# Altium footprint library 元器件.PCBLIB: 210 footprints (part 8 of 14)
Each footprint in its own frame and in the unit in brackets; x right, y up, seen from the top. Pads: shape width x height; smd on the part's side, far side on the other; paste and mask are expansions set on the pad; w line width, h text height; cw(c..) or ccw(c..) is an arc to the next point about the centre after c.
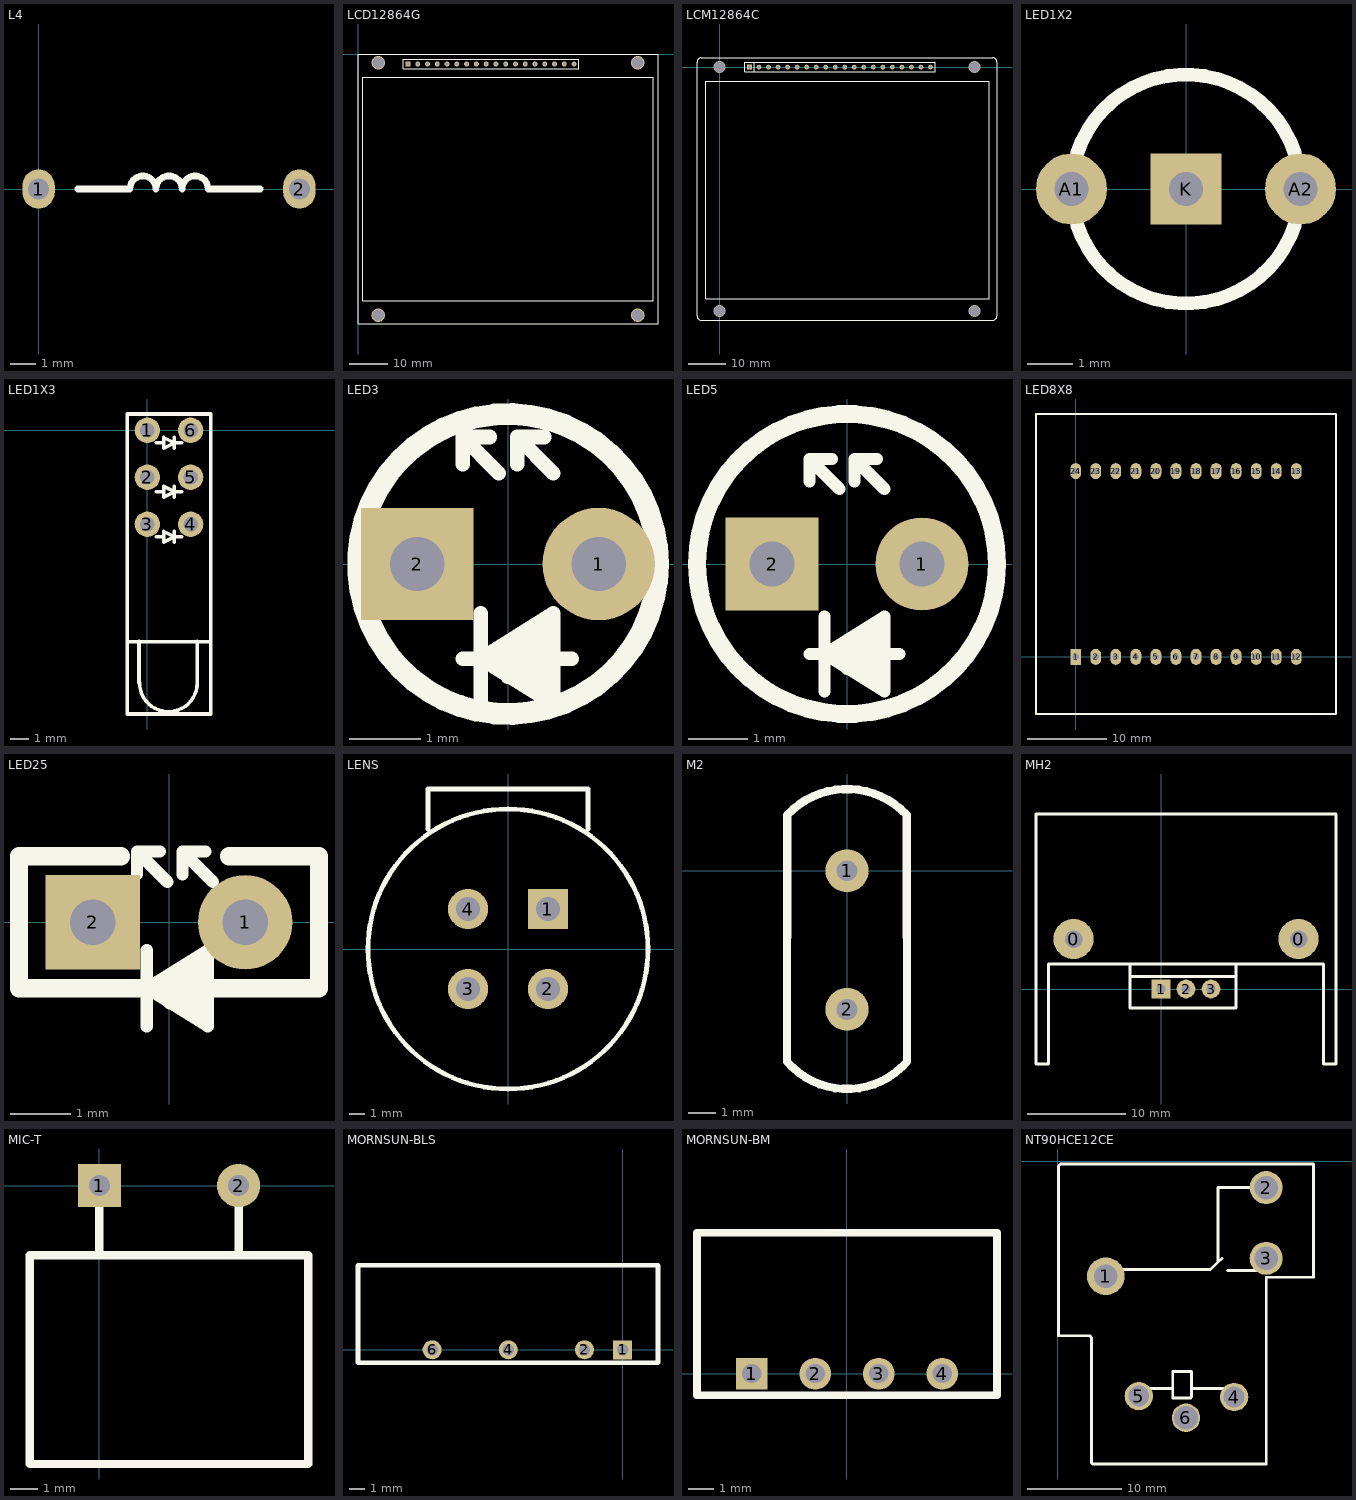
[diagram p7: the footprints below, top view; thin cyan lines are the x and y axes]

## L4 [mil]
pads (2):
  oval 50x60 hole 32: 1(0,0) 2(400,0)
TopOverlay:
  lines w10: 60,0 140,0 cw(c160,0) 180,0 cw(c200,0) 220,0 cw(c240,0) 260,0 340,0

## LCD12864G [mm]
pads (18):
  rect 1.27x1.27 hole 0.762: 1(13,-2.5)
  round 1.27 hole 0.762: 2(15.54,-2.5) 3(18.08,-2.5) 4(20.62,-2.5) 5(23.16,-2.5) 6(25.7,-2.5) 7(28.24,-2.5) 8(30.78,-2.5) 9(33.32,-2.5) 10(35.86,-2.5) 11(38.4,-2.5) 12(40.94,-2.5) 13(43.48,-2.5) 14(46.02,-2.5) 15(48.56,-2.5) 16(51.1,-2.5) 17(53.64,-2.5) 18(56.18,-2.5)
via 5.25,-67.8 diameter 3.5 hole 3
via 72.75,-67.8 diameter 3.5 hole 3
via 5.25,-2.2 diameter 3.5 hole 3
via 72.75,-2.2 diameter 3.5 hole 3
TopOverlay:
  lines w0.305: 0,-70 0,0 78,0 78,-70 0,-70 ; 1.2,-64 76.8,-64 76.8,-6 1.2,-6 1.2,-64 ; 11.73,-3.77 11.73,-1.23 57.45,-1.23 57.45,-3.77 11.73,-3.77

## LCM12864C [mil]
pads (20):
  rect 50x50 hole 32: 1(314.96,0)
  round 50 hole 32: 2(414.96,0) 3(514.96,0) 4(614.96,0) 5(714.96,0) 6(814.96,0) 7(914.96,0) 8(1014.96,0) 9(1114.96,0) 10(1214.96,0) 11(1314.96,0) 12(1414.96,0) 13(1514.96,0) 14(1614.96,0) 15(1714.96,0) 16(1814.96,0) 17(1914.96,0) 18(2014.96,0) 19(2114.96,0) 20(2214.96,0)
via 0,0 diameter 125.98 hole 118.11
via 2677.17,0 diameter 125.98 hole 118.11
via 0,-2559.06 diameter 125.98 hole 118.11
via 2677.17,-2559.06 diameter 125.98 hole 118.11
TopLayer:
  lines w12: 1014.96,-0.79 1014.96,0
TopOverlay:
  lines w10: -236.22,-1814.57 -236.22,51.43 cw(c-189.22,51.43) -189.22,98.43 ; 364.96,-50 364.96,50 ; 264.96,-50 2264.96,-50 2264.96,50 264.96,50 264.96,-50
  lines w12: -236.22,51.43 -236.22,-2610.48 ccw(c-189.22,-2610.48) -189.22,-2657.48 2866.39,-2657.48 ccw(c2866.39,-2610.48) 2913.39,-2610.48 2913.39,51.43 ccw(c2866.39,51.43) 2866.39,98.43 -137.8,98.43 -189.22,98.43 ; -143.7,-2433.07 2832.68,-2433.07 2832.68,-149.61 -143.7,-149.61 -143.7,-2433.07
KeepOutLayer:
  circle w12: c-236.22,-2610.48 r0

## LED1X2 [mil]
pads (3):
  round 62 hole 30: A1(-100,0) A2(100,0)
  rect 62x62 hole 30: K(0,0)
TopOverlay:
  circle w12: c0,0 r100

## LED1X3 [mm]
pads (6):
  round 1.4 hole 0.8: 1(0,0) 2(0,-2.6) 3(0,-5.2) 4(2.4,-5.2) 5(2.4,-2.6) 6(2.4,0)
TopOverlay:
  lines w0.2: -0.457,-13.97 -0.457,-11.684 ; -0.433,-13.97 ccw(c1.167,-13.97) 2.767,-13.97 ; 0.5,-5.9 0.9,-5.9 ; 0.5,-3.4 0.9,-3.4 ; 0.5,-0.7 0.9,-0.7 ; 1.5,-6.2 1.5,-5.6 ; 1.5,-3.7 1.5,-3.1 ; 1.5,-1 1.5,-0.4 ; 1.9,-5.9 1.5,-5.9 ; 1.9,-3.4 1.5,-3.4 ; 1.9,-0.7 1.5,-0.7 ; 2.769,-13.97 2.769,-11.684 ; -1.1,-11.7 3.5,-11.7 ; -1.1,-11.7 -1.1,-15.7 3.5,-15.7 3.5,-11.7 ; -1.1,-11.7 -1.1,0.9 3.5,0.9 3.5,-11.7 ; 1.5,-5.9 0.9,-6.2 0.9,-5.6 1.5,-5.9 ; 1.5,-3.4 0.9,-3.7 0.9,-3.1 1.5,-3.4 ; 1.5,-0.7 0.9,-1 0.9,-0.4 1.5,-0.7

## LED3 [mil]
pads (2):
  round 62 hole 30: 1(50,0)
  rect 62x62 hole 30: 2(-50,0)
TopOverlay:
  circle w12: c0,0 r82.68
  lines w8: -25,-52.13 35,-52.13 ; -25,55 -25,70 ; -15,-77.13 -15,-27.13 ; -10,70 -25,70 ; -5,50 -25,70 ; 5,55 5,70 ; 20,70 5,70 ; 25,-37.13 10,-37.13 0,-47.13 0,-62.13 10,-62.13 ; 25,50 5,70 ; 10,-62.13 10,-50.41 15,-45.41 15,-67.13 ; 10,-62.13 15,-67.13 ; 15,-67.13 5,-57.13 5,-52.13 20,-37.13 20,-67.13 15,-67.13 ; -15,-52.13 25,-77.13 25,-27.13 -15,-52.13

## LED5 [mil]
pads (2):
  round 62 hole 30: 1(50,0)
  rect 62x62 hole 30: 2(-50,0)
TopOverlay:
  circle w12: c0,0 r100
  lines w8: -25,-60 35,-60 ; -25,55 -25,70 ; -15,-85 -15,-35 ; -10,70 -25,70 ; -5,50 -25,70 ; 5,55 5,70 ; 20,70 5,70 ; 25,-45 10,-45 0,-55 0,-70 10,-70 ; 25,50 5,70 ; 10,-70 10,-58.28 15,-53.28 15,-75 ; 10,-70 15,-75 ; 15,-75 5,-65 5,-60 20,-45 20,-75 15,-75 ; -15,-60 25,-85 25,-35 -15,-60

## LED8X8 [mil]
pads (24):
  rect 54x80 hole 32: 1(0,0)
  oval 54x80 hole 32: 2(100,0) 3(200,0) 4(300,0) 5(400,0) 6(500,0) 7(600,0) 8(700,0) 9(800,0) 10(900,0) 11(1000,0) 12(1100,0) 13(1100,926.06) 14(1000,926.06) 15(900,926.06) 16(800,926.06) 17(700,926.06) 18(600,926.06) 19(500,926.06) 20(400,926.06) 21(300,926.06) 22(200,926.06) 23(100,926.06) 24(0,926.06)
TopOverlay:
  lines w10: -198.03,-285 -198.03,1211.06 1298.03,1211.06 1298.03,-285 -198.03,-285

## LED25 [mil]
pads (2):
  round 62 hole 30: 1(50,0)
  rect 62x62 hole 30: 2(-50,0)
TopOverlay:
  lines w8: -24.57,-43.31 35.43,-43.31 ; -21.06,31.38 -21.06,46.38 ; -14.57,-68.31 -14.57,-18.31 ; -6.06,46.38 -21.06,46.38 ; -1.06,26.38 -21.06,46.38 ; 8.94,31.38 8.94,46.38 ; 23.94,46.38 8.94,46.38 ; 25.43,-28.31 10.43,-28.31 0.43,-38.31 0.43,-53.31 10.43,-53.31 ; 28.94,26.38 8.94,46.38 ; 10.43,-53.31 10.43,-41.59 15.43,-36.59 15.43,-58.31 ; 10.43,-53.31 15.43,-58.31 ; 15.43,-58.31 5.43,-48.31 5.43,-43.31 20.43,-28.31 20.43,-58.31 15.43,-58.31 ; -14.57,-43.31 25.43,-68.31 25.43,-18.31 -14.57,-43.31
  lines w12: -31.5,43.31 -98.43,43.31 -98.43,0 -98.43,-43.31 98.43,-43.31 98.43,43.31 39.37,43.31

## LENS [mil]
pads (4):
  rect 100x100 hole 60: 1(100,100)
  round 100 hole 60: 2(100,-100) 3(-100,-100) 4(-100,100)
TopOverlay:
  circle w12: c0,0 r350
  lines w12: -200,300 -200,400 200,400 200,300

## M2 [mil]
pads (2):
  round 62 hole 30: 1(0,0) 2(0,-200)
TopOverlay:
  lines w12: -86.61,-275.59 ccw(c0,-200) 86.61,-275.59 86.41,80.52 ccw(c0,0) -86.41,80.52 -86.61,-275.59

## MH2 [mil]
pads (5):
  round 160 hole 70: 0(-350,200) 0(550,200)
  rect 75x75 hole 36: 1(0,0)
  round 75 hole 36: 2(100,0) 3(200,0)
TopOverlay:
  lines w12: -125,50 300,50 ; -500,-300 -450,-300 -450,100 650,100 650,-300 700,-300 700,700 -500,700 -500,-300 ; -125,-75 -125,100 300,100 300,-75 -125,-75

## MIC-T [mil]
pads (2):
  rect 62x62 hole 30: 1(0,0)
  round 62 hole 30: 2(200,0)
TopOverlay:
  lines w12: 0,-100 0,0 ; 200,-100 200,0 ; -100,-400 -100,-100 300,-100 300,-400 -100,-400

## MORNSUN-BLS [mil]
pads (4):
  rect 50x50 hole 30: 1(0,0)
  round 50 hole 30: 2(-100,0) 4(-300,0) 6(-500,0)
TopOverlay:
  lines w12: -694.49,-34 -694.49,221.91 92.91,221.91 92.91,-34 -694.49,-34

## MORNSUN-BM [mil]
pads (4):
  rect 50x50 hole 30: 1(-150,0)
  round 50 hole 30: 2(-50,0) 3(50,0) 4(150,0)
TopOverlay:
  lines w12: -236.22,-34 -236.22,221.91 236.22,221.91 236.22,-34 -236.22,-34

## NT90HCE12CE [mm]
pads (6):
  round 4 hole 2.5: 1(5.08,-12.192)
  round 3.5 hole 2.5: 2(22.08,-2.792) 3(22.08,-10.292)
  round 3 hole 2.2: 4(18.68,-24.992) 5(8.58,-24.892)
  round 3 hole 2.5: 6(13.58,-27.192)
TopOverlay:
  lines w0.3: 0.08,-12.192 0.08,-0.492 0.28,-0.292 0.68,-0.292 22.08,-0.292 ; 0.08,-11.192 0.08,-18.492 1.68,-18.492 3.38,-18.492 3.58,-18.692 3.58,-24.892 3.58,-31.992 3.68,-32.092 6.38,-32.092 15.08,-32.092 ; 6.58,-11.492 16.18,-11.492 16.98,-10.692 ; 9.38,-24.092 12.18,-24.092 ; 13.58,-32.092 22.08,-32.092 22.08,-29.292 22.08,-12.292 27.08,-12.292 27.08,-9.792 ; 14.18,-24.092 17.78,-24.092 18.18,-24.492 ; 17.38,-10.292 16.98,-10.692 ; 17.98,-11.592 21.58,-11.592 ; 19.98,-0.292 27.08,-0.292 27.08,-3.046 ; 22.08,-2.792 16.98,-2.792 16.98,-9.192 16.98,-10.692 ; 27.08,-11.392 27.08,-1.792 ; 12.18,-25.092 12.18,-22.292 14.18,-22.292 14.18,-24.992 14.08,-25.092 12.18,-25.092